# Altium footprint library 2125201006.PcbLib: 1 footprints
Each footprint in its own frame and in the unit in brackets; x right, y up, seen from the top. Pads: shape width x height; smd on the part's side, far side on the other; paste and mask are expansions set on the pad; w line width, h text height; cw(c..) or ccw(c..) is an arc to the next point about the centre after c.
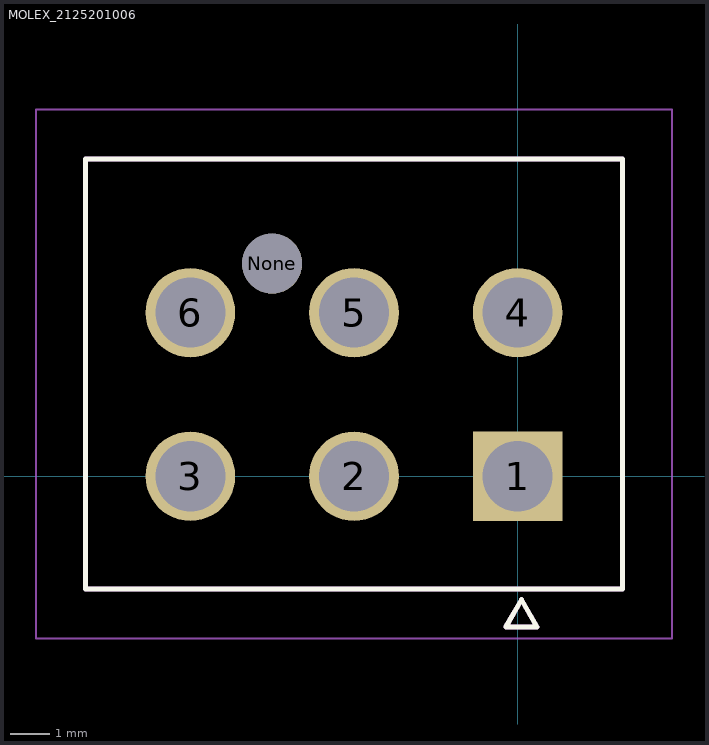
[diagram p0: the footprint, top view; thin cyan lines are the x and y axes]

## MOLEX_2125201006 [mm]
pads (7):
  rect 2.3x2.3 hole 1.8: 1(0,0)
  round 2.3 hole 1.8: 2(-4.2,0) 3(-8.4,0) 4(0,4.2) 5(-4.2,4.2) 6(-8.4,4.2)
  round 1.54 hole 1.54: None(-6.3,5.46)
F.SilkS:
  lines w0.127: -11.1,-2.9 -11.1,8.15 2.7,8.15 2.7,-2.9 -11.1,-2.9 ; -0.3,-3.87 0.5,-3.87 0.1,-3.17 -0.3,-3.87
F.Mask:
  circle w1.226: c-4.2,0 r0.613
  circle w1.226: c-8.4,0 r0.613
  circle w1.226: c0,4.2 r0.613
  circle w1.226: c-4.2,4.2 r0.613
  circle w1.226: c-8.4,4.2 r0.613
  circle w0.846: c-6.3,5.46 r0.423
  region: 1.226,-1.226 -1.226,-1.226 -1.226,1.226 1.226,1.226
B.Mask:
  circle w1.226: c-4.2,0 r0.613
  circle w1.226: c-8.4,0 r0.613
  circle w1.226: c0,4.2 r0.613
  circle w1.226: c-4.2,4.2 r0.613
  circle w1.226: c-8.4,4.2 r0.613
  circle w0.846: c-6.3,5.46 r0.423
  region: 1.226,-1.226 -1.226,-1.226 -1.226,1.226 1.226,1.226
F.CrtYd:
  lines w0.05: -12.37,-4.17 -12.37,9.42 3.97,9.42 3.97,-4.17 -12.37,-4.17
F.Fab:
  lines w0.127: -11.1,-2.9 -11.1,8.15 2.7,8.15 2.7,-2.9 -11.1,-2.9 ; -0.3,-3.87 0.5,-3.87 0.1,-3.17 -0.3,-3.87
  text "PTH D1.80 +/- 0.04" at -13.391,-7.112 h0.39
  text "NPTH D1.54 +/- 0.04" at -13.46,-8.112 h0.39